# EAGLE library part DIP-04 (library SparkFun-Switches)
4-Position DIP Switch 4-circuit DIP (dual inline package) switch. Commonly used to physcially set a circuit's behavior. SparkFun Products Prototype Part
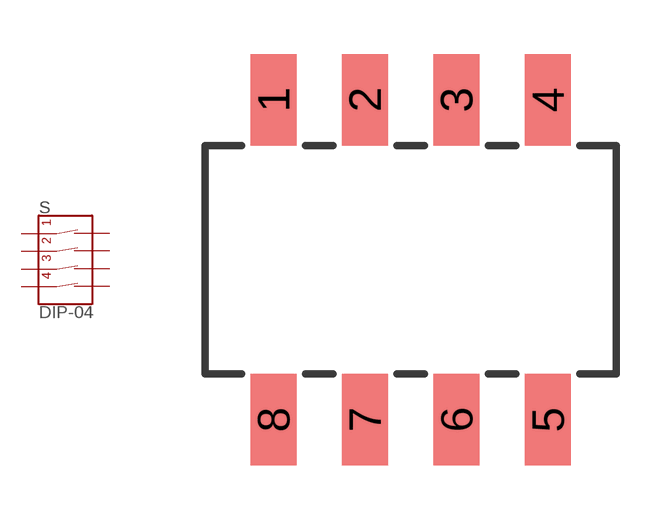
[diagram p10: symbol with the pads of DIPSWITCH-04-SMD; footprint DIPSWITCH-04-SMD]

Designator prefix S

## DIP-04SMD  [DIPSWITCH-04-SMD]
1  1A
2  2A
3  3A
4  4A
5  4B
6  3B
7  2B
8  1B

## Footprint DIPSWITCH-04-SMD (pad centres in mm)
4-Position DIP Switch - SMD, 0.1"-Pitch Datasheet <http://www.ctscorp.com/wp-content/uploads/2015/11/219.pdf> (219-4MST)
smd 1.27 x 2.54: 1 -3.81,4.445; 2 -1.27,4.445; 3 1.27,4.445; 4 3.81,4.445; 5 3.81,-4.445; 6 1.27,-4.445; 7 -1.27,-4.445; 8 -3.81,-4.445